# EAGLE library part ARDUINO_DUE (library uno_pin)
Device for representing an Arduino Due board with a footprint in an EAGLE design. Created by Dave Young for Element14. More EAGLE documentation at: http://www.element14.com/community/community/knode/cadsoft_eagle
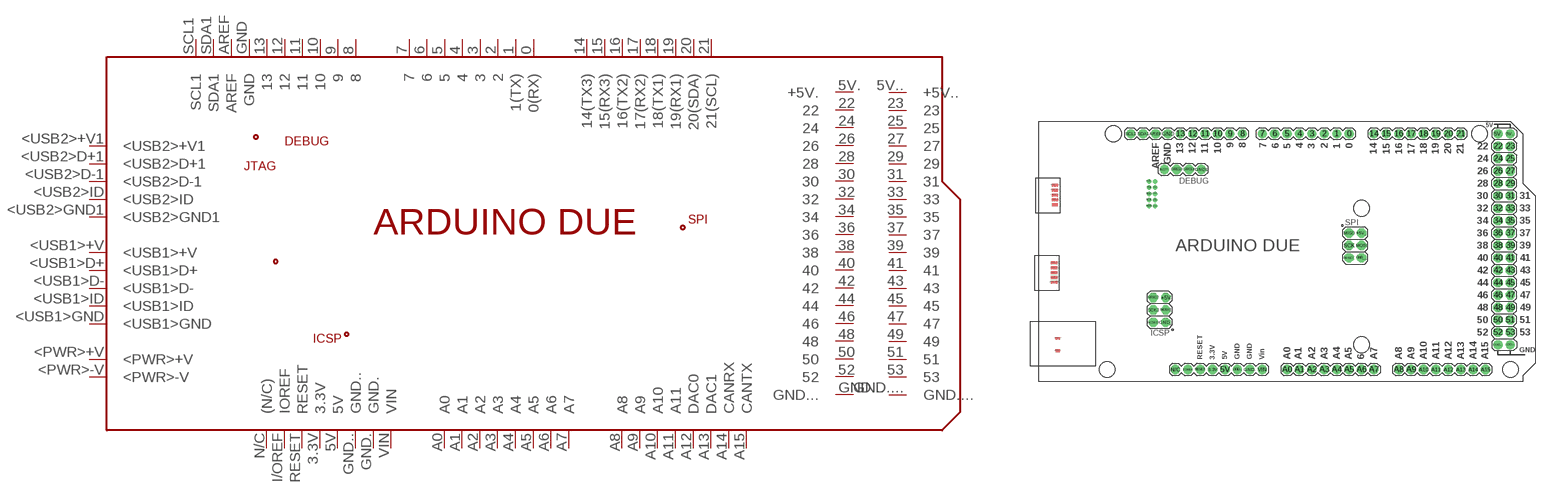
[diagram p1: symbol with the pads of ARDUINO_DUE; footprint ARDUINO_DUE]

Designator prefix PCB

## ARDUINO_DUE  [ARDUINO_DUE]
0  0(RX)
1  1(TX)
2  2
3  3
3.3V  3.3V
4  4
5  5
5V  5V
5V.  +5V.
5V..  +5V..
6  6
7  7
8  8
9  9
10  10
11  11
12  12
13  13
14  14(TX3)
15  15(RX3)
16  16(TX2)
17  17(RX2)
18  18(TX1)
19  19(RX1)
20  20(SDA)
21  21(SCL)
22  22
23  23
24  24
25  25
26  26
27  27
28  28
29  29
30  30
31  31
32  32
33  33
34  34
35  35
36  36
37  37
38  38
39  39
40  40
41  41
42  42
43  43
44  44
45  45
46  46
47  47
48  48
49  49
50  50
51  51
52  52
53  53
+3.3V  +3.3V
+5V  +5V
+5V_  +5V_
<PWR>+V  <PWR>+V
<PWR>-V  <PWR>-V
<USB1>+V  <USB1>+V
<USB1>D+  <USB1>D+
<USB1>D-  <USB1>D-
<USB1>GND  <USB1>GND
<USB1>ID  <USB1>ID
<USB2>+V1  <USB2>+V1
<USB2>D+1  <USB2>D+1
<USB2>D-1  <USB2>D-1
<USB2>GND1  <USB2>GND1
<USB2>ID  <USB2>ID
A0  A0
A1  A1
A2  A2
A3  A3
A4  A4
A5  A5
A6  A6
A7  A7
A8  A8
A9  A9
A10  A10
A11  A11
A12  DAC0
A13  DAC1
A14  CANRX
A15  CANTX
AREF  AREF
GND  GND
GND1  GND1
GND1.  GND1.
GND1..  GND1..
GND1...  GND1...
GND.  GND.
GND..  GND..
GND...  GND...
GND....  GND....
GND_  GND_
GND__  GND__
I/OREF  IOREF
MISO  MISO
MISO2  MISO2
MOSI  MOSI
MOSI2  MOSI2
N/C  (N/C)
N/C.  N/C.
RESET  RESET
RESET2  RESET2
RESET.  RESET.
RESET..  RESET..
RESET_  RESET_
SCK  SCK
SCK2  SCK2
SCL1  SCL1
SDA1  SDA1
SWCLK  SWCLK
SWDIO  SWDIO
TCK  TCK
TDI  TDI
TDO  TDO
TMS  TMS
VIN  VIN

## Footprint ARDUINO_DUE (pad centres in mm)
Footprint for representing an Arduino Due board in an EAGLE schematic. Created by Dave Young for Element14. More EAGLE documentation at: http://www.element14.com/community/community/knode/cadsoft_eagle
drill 1.016 pad 1.88: 0 63.5,50.8; 1 60.96,50.8; 2 58.42,50.8; 3 55.88,50.8; 3.3V 35.56,2.54; 4 53.34,50.8; 5 50.8,50.8; 5V 38.1,2.54; 5V. 93.98,50.8; 5V.. 96.52,50.8; 6 48.26,50.8; 7 45.72,50.8; 8 41.656,50.8; 9 39.116,50.8; 10 36.576,50.8; 11 34.036,50.8; 12 31.496,50.8; 13 28.956,50.8; 14 68.58,50.8; 15 71.12,50.8; 16 73.66,50.8; 17 76.2,50.8; 18 78.74,50.8; 19 81.28,50.8; 20 83.82,50.8; 21 86.36,50.8; A0 50.8,2.54; A1 53.34,2.54; A2 55.88,2.54; A3 58.42,2.54; A4 60.96,2.54; A5 63.5,2.54; A6 66.04,2.54; A7 68.58,2.54; A8 73.66,2.54; A9 76.2,2.54; A10 78.74,2.54; A11 81.28,2.54; A12 83.82,2.54; A13 86.36,2.54; A14 88.9,2.54; A15 91.44,2.54; AREF 23.876,50.8; GND 26.416,50.8; GND1 33.274,43.485; GND. 43.18,2.54; GND.. 40.64,2.54; GND... 93.98,7.62; GND.... 96.52,7.62; I/OREF 30.48,2.54; N/C 27.94,2.54; RESET 33.02,2.54; RESET.. 25.654,43.485; SCL1 18.796,50.8; SDA1 21.336,50.8; SWCLK 30.734,43.485; SWDIO 28.194,43.485; VIN 45.72,2.54
drill 1.016 pad 1.88 octagon: 22 93.98,48.26; 23 96.52,48.26; 24 93.98,45.72; 25 96.52,45.72; 26 93.98,43.18; 27 96.52,43.18; 28 93.98,40.64; 29 96.52,40.64; 30 93.98,38.1; 31 96.52,38.1; 32 93.98,35.56; 33 96.52,35.56; 34 93.98,33.02; 35 96.52,33.02; 36 93.98,30.48; 37 96.52,30.48; 38 93.98,27.94; 39 96.52,27.94; 40 93.98,25.4; 41 96.52,25.4; 42 93.98,22.86; 43 96.52,22.86; 44 93.98,20.32; 45 96.52,20.32; 46 93.98,17.78; 47 96.52,17.78; 48 93.98,15.24; 49 96.52,15.24; 50 93.98,12.7; 51 96.52,12.7; 52 93.98,10.16; 53 96.52,10.16; +5V 25.959,17.272; +5V_ 66.04,30.48; GND_ 25.959,12.192; GND__ 66.04,25.4; MISO 63.5,30.48; MISO2 23.419,17.272; MOSI 66.04,27.94; MOSI2 25.959,14.732; RESET2 23.419,12.192; RESET. 63.5,25.4; SCK 63.5,27.94; SCK2 23.419,14.732
drill 0.406 pad 0.61: +3.3V 23.8,35.966; GND1. 23.8,37.236; GND1.. 23.8,38.506; GND1... 23.8,41.046; N/C. 23.8,39.776; RESET_ 22.53,41.046; TCK 22.53,37.236; TDI 22.53,39.776; TDO 22.53,38.506; TMS 22.53,35.966
smd 1.016 x 0.508: <PWR>+V 3.81,8.89; <PWR>-V 3.81,6.35
smd 1.27 x 0.635: <USB1>+V 3.099,24.359; <USB1>D+ 3.099,23.368; <USB1>D- 3.099,22.352; <USB1>GND 3.099,20.371; <USB1>ID 3.099,21.387; <USB2>+V1 3.302,40.234; <USB2>D+1 3.302,39.243; <USB2>D-1 3.302,38.227; <USB2>GND1 3.302,36.246; <USB2>ID 3.302,37.262
hole 3.2 at 15.24,50.8
hole 3.2 at 13.97,2.54
hole 3.2 at 66.04,35.56
hole 3.2 at 66.04,7.62
hole 3.2 at 90.17,50.8
hole 3.2 at 96.52,2.54